# Altium footprint library PCB - CONNECTORS - MOLEX 470531000.PCBLIB: 1 footprints
Each footprint in its own frame and in the unit in brackets; x right, y up, seen from the top. Pads: shape width x height; smd on the part's side, far side on the other; paste and mask are expansions set on the pad; w line width, h text height; cw(c..) or ccw(c..) is an arc to the next point about the centre after c.
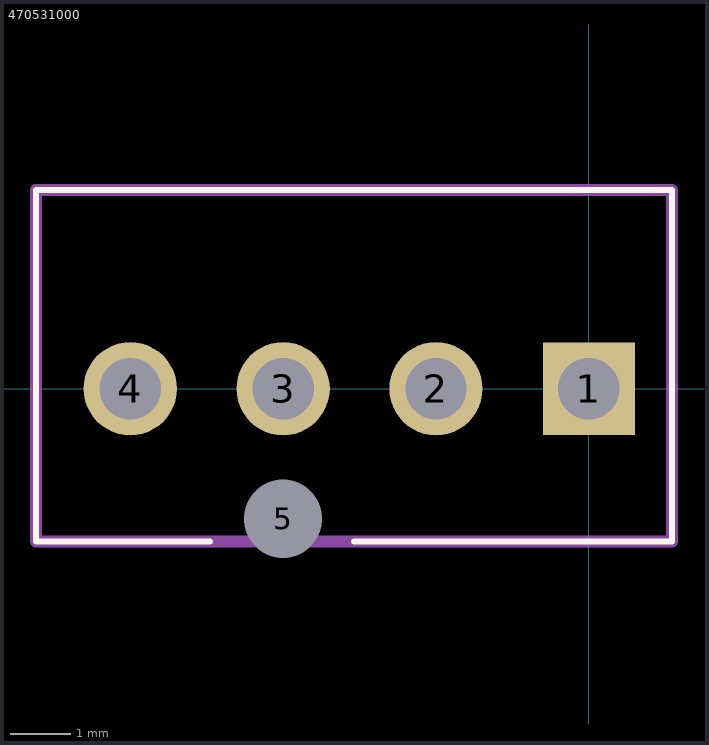
[diagram p0: the footprint, top view; thin cyan lines are the x and y axes]

## 470531000 [mm]
pads (5):
  rect 1.53x1.53 hole 1.02: 1(0,0)
  round 1.55 hole 1.02: 2(-2.54,0) 3(-5.08,0) 4(-7.62,0)
  round 0.65 hole 1.3 unplated: 5(-5.08,-2.16)
Top Overlay:
  lines w0.1: -6.293,-2.54 -9.19,-2.54 -9.19,3.3 1.386,3.3 1.386,-2.54 -3.902,-2.54
Top Assembly:
  lines w0.2: -9.19,-2.54 -9.19,3.3 1.386,3.3 1.386,-2.54 -9.19,-2.54
Top Designator:
  text ".Designator" at -6.531,-3.857 h0.76
3D body "47053-1000.stp": height 10, standoff -3.5, extent -8.88,-2.48 1.32,3.36